# Altium footprint library PCB - LCD - NEWHAVEN DISPLAY NHD-0440WH-ATFH-JT.PcbLib: 1 footprints
Each footprint in its own frame and in the unit in brackets; x right, y up, seen from the top. Pads: shape width x height; smd on the part's side, far side on the other; paste and mask are expansions set on the pad; w line width, h text height; cw(c..) or ccw(c..) is an arc to the next point about the centre after c.
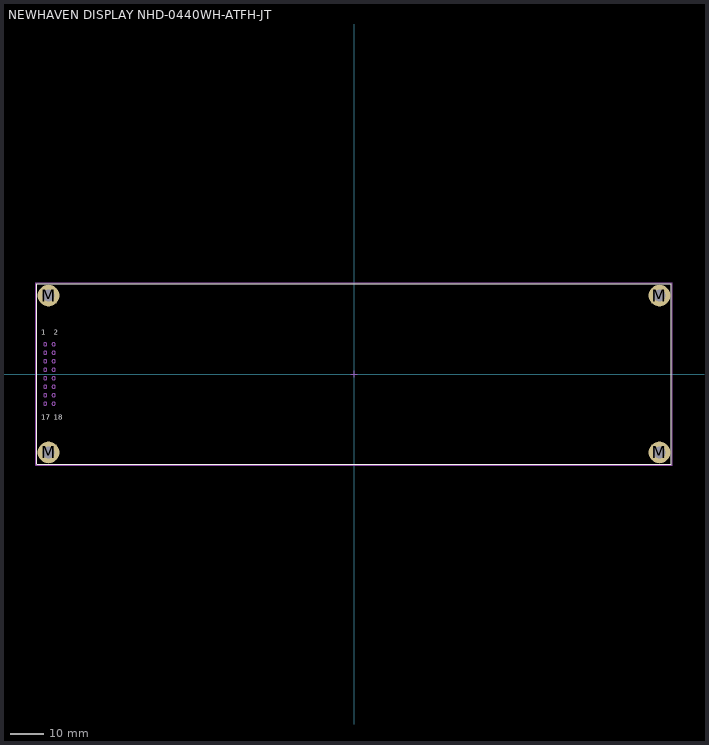
[diagram p0: the footprint, top view; thin cyan lines are the x and y axes]

## NEWHAVEN DISPLAY NHD-0440WH-ATFH-JT [mm] "Character LCD 4x40 Characters"
height 13.6
pads (4):
  round 6.5 hole 3.5 unplated: M(-91.5,-23.5) M(-91.5,23.5) M(91.5,-23.5) M(91.5,23.5)
Top Overlay:
  lines w0.2: -95,-27 -95,27 95,27 95,-27 -95,-27
  text "17" at -93.726,-13.716 h1.5
  text "18" at -89.916,-13.716 h1.5
  text "2" at -89.916,11.684 h1.5
  text "1" at -93.726,11.684 h1.5
Top Component Outline:
  circle w0.2: c-89.96,-8.89 r0.5
  circle w0.2: c-89.96,-6.35 r0.5
  circle w0.2: c-89.96,-3.81 r0.5
  circle w0.2: c-89.96,-1.27 r0.5
  circle w0.2: c-89.96,1.27 r0.5
  circle w0.2: c-89.96,3.81 r0.5
  circle w0.2: c-89.96,6.35 r0.5
  circle w0.2: c-89.96,8.89 r0.5
  circle w0.2: c-92.5,-8.89 r0.5
  circle w0.2: c-92.5,-6.35 r0.5
  circle w0.2: c-92.5,-3.81 r0.5
  circle w0.2: c-92.5,-1.27 r0.5
  circle w0.2: c-92.5,1.27 r0.5
  circle w0.2: c-92.5,3.81 r0.5
  circle w0.2: c-92.5,6.35 r0.5
  circle w0.2: c-92.5,8.89 r0.5
Top Courtyard:
  lines w0.2: -1,0 1,0 ; 0,-1 0,1 ; -95.3,-27.3 95.3,-27.3 95.3,27.3 -95.3,27.3 -95.3,-27.3
3D body "NHD-0440WH-ATFH-JT.step": height 12.7, standoff 0, extent -95,-27 95,27